# EAGLE library part 24AA512 (library microchip-nuno)
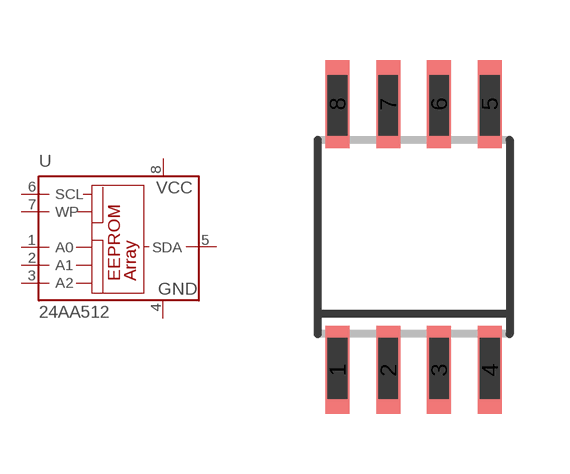
[diagram p1: symbol with the pads of SO-08M; footprint SO-08M]

Designator prefix -

## 24AA512  [SO-08M]
1  A0  in
2  A1  in
3  A2  in
4  VSS  pwr
5  SDA
6  SCL  in
7  WP  in
8  VDD  pwr

## Footprint SO-08M (pad centres in mm)
smd 0.6 x 2.2: 1 -8.255,-3.33; 2 -6.985,-3.33; 3 -5.715,-3.33; 4 -4.445,-3.33; 5 -4.445,3.33; 6 -5.715,3.33; 7 -6.985,3.33; 8 -8.255,3.33